# Altium footprint library merci.PcbLib: 23 footprints (part 1 of 2)
Each footprint in its own frame and in the unit in brackets; x right, y up, seen from the top. Pads: shape width x height; smd on the part's side, far side on the other; paste and mask are expansions set on the pad; w line width, h text height; cw(c..) or ccw(c..) is an arc to the next point about the centre after c.
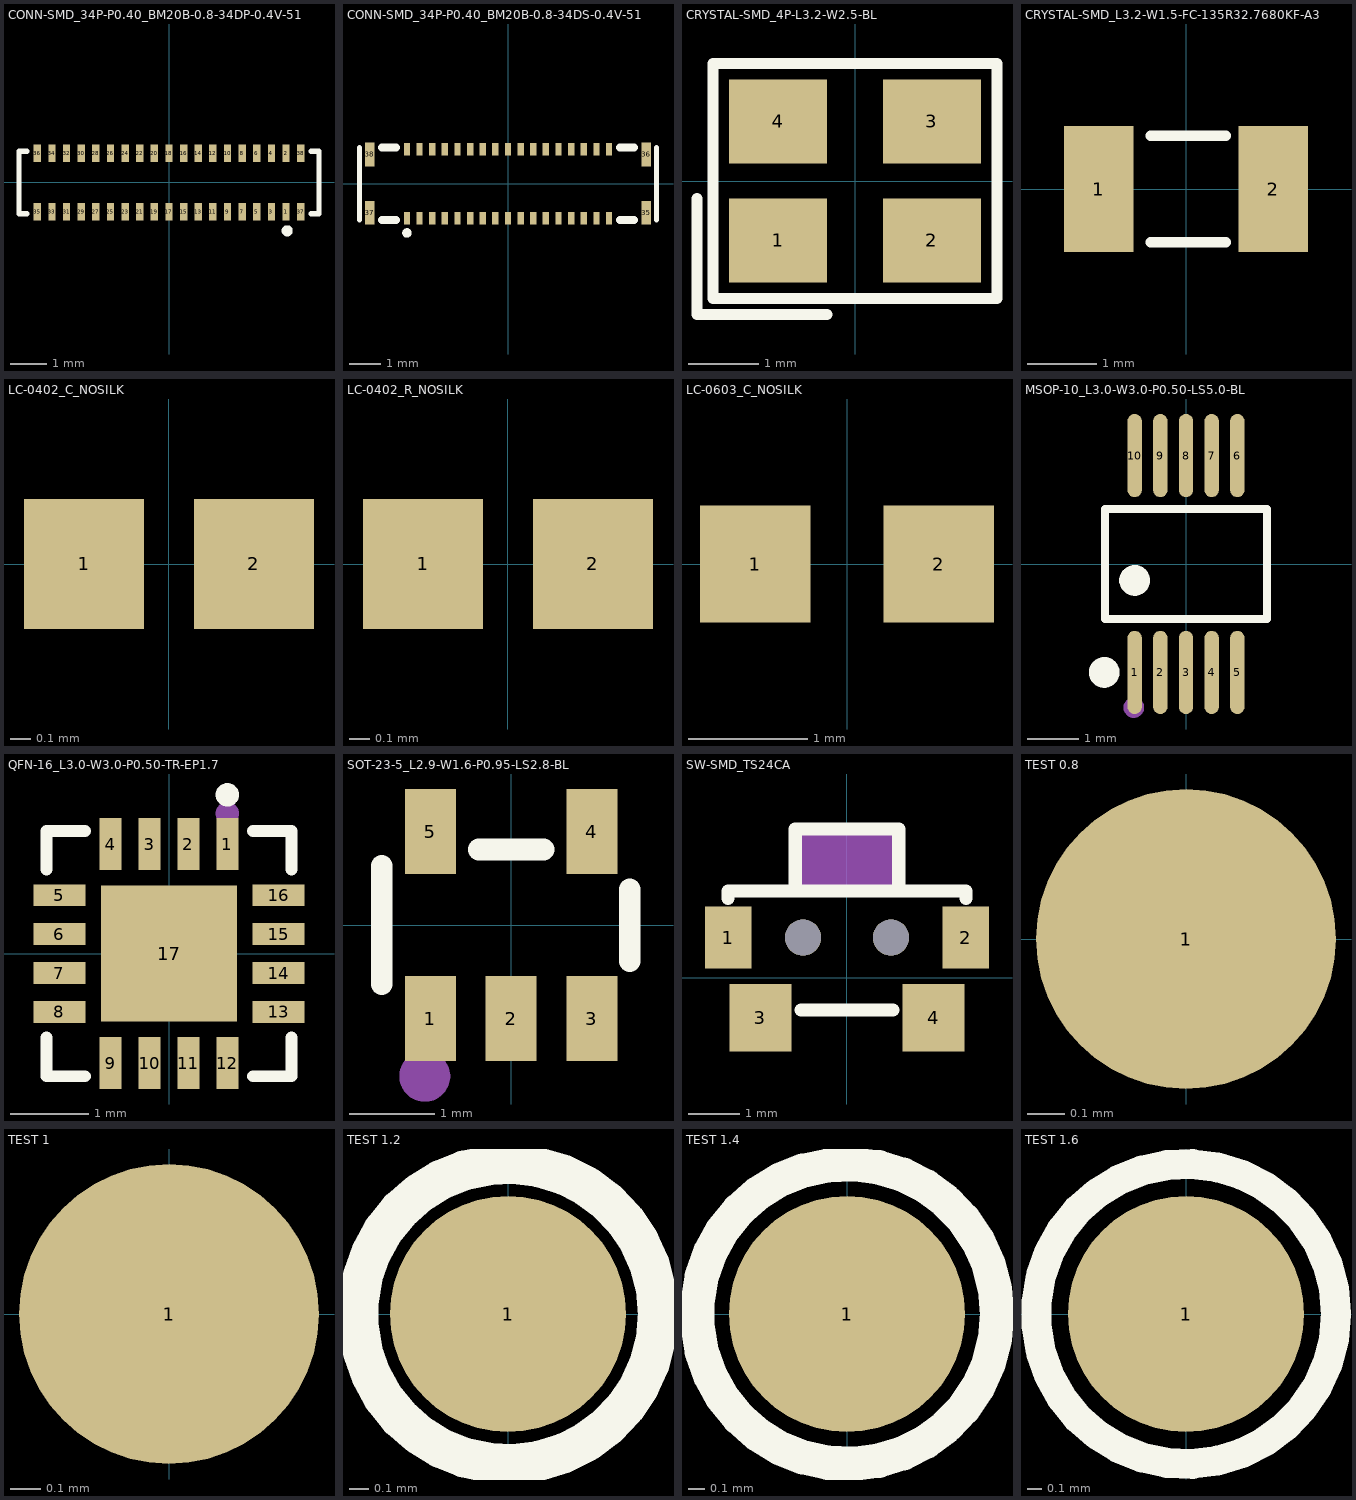
[diagram p0: the footprints below, top view; thin cyan lines are the x and y axes]

## CONN-SMD_34P-P0.40_BM20B-0.8-34DP-0.4V-51 [mm]
pads (38):
  rect 0.2x0.48 smd: 1(3.2,-0.8) 2(3.2,0.8) 3(2.8,-0.8) 4(2.8,0.8) 5(2.4,-0.8) 6(2.4,0.8) 7(2,-0.8) 8(2,0.8) 9(1.6,-0.8) 10(1.6,0.8) 11(1.2,-0.8) 12(1.2,0.8) 13(0.8,-0.8) 14(0.8,0.8) 15(0.4,-0.8) 16(0.4,0.8) 17(0,-0.8) 18(0,0.8) 19(-0.4,-0.8) 20(-0.4,0.8) 21(-0.8,-0.8) 22(-0.8,0.8) 23(-1.2,-0.8) 24(-1.2,0.8) 25(-1.6,-0.8) 26(-1.6,0.8) 27(-2,-0.8) 28(-2,0.8) 29(-2.4,-0.8) 30(-2.4,0.8) 31(-2.8,-0.8) 32(-2.8,0.8) 33(-3.2,-0.8) 34(-3.2,0.8) 35(-3.6,-0.8) 36(-3.6,0.8) 37(3.6,-0.8) 38(3.6,0.8)
Top Overlay:
  circle w0.15: c3.23,-1.32 r0.076
  lines w0.15: -3.894,-0.86 -4.1,-0.86 -4.1,0.86 -3.894,0.86 ; 3.894,-0.86 4.1,-0.86 4.1,0.86 3.894,0.86
3D body "BM20B(0.8)-34DP-0.4V.stp": height 0.63, standoff -0.03, extent -4.075,-0.94 4.125,0.84

## CONN-SMD_34P-P0.40_BM20B-0.8-34DS-0.4V-51 [mm]
pads (38):
  rect 0.2x0.4 smd: 1(-3.2,-1.09) 2(-3.2,1.09) 3(-2.8,-1.09) 4(-2.8,1.09) 5(-2.4,-1.09) 6(-2.4,1.09) 7(-2,-1.09) 8(-2,1.09) 9(-1.6,-1.09) 10(-1.6,1.09) 11(-1.2,-1.09) 12(-1.2,1.09) 13(-0.8,-1.09) 14(-0.8,1.09) 15(-0.4,-1.09) 16(-0.4,1.09) 17(0,-1.09) 18(0,1.09) 19(0.4,-1.09) 20(0.4,1.09) 21(0.8,-1.09) 22(0.8,1.09) 23(1.2,-1.09) 24(1.2,1.09) 25(1.6,-1.09) 26(1.6,1.09) 27(2,-1.09) 28(2,1.09) 29(2.4,-1.09) 30(2.4,1.09) 31(2.8,-1.09) 32(2.8,1.09) 33(3.2,-1.09) 34(3.2,1.09)
  rect 0.3x0.75 smd: 35(4.375,-0.925) 36(4.375,0.925) 37(-4.375,-0.925) 38(-4.375,0.925)
Top Overlay:
  circle w0.15: c-3.2,-1.56 r0.076
  lines w0.15: -4.7,-1.15 -4.7,1.15 ; 4.7,-1.15 4.7,1.15
  lines w0.254: -3.994,-1.15 -3.546,-1.15 ; -3.994,1.15 -3.546,1.15 ; 3.546,-1.15 3.994,-1.15 ; 3.546,1.15 3.994,1.15
3D body "BM20B(0.8)-34DS-0.4V.stp": height 0.77, standoff -0.03, extent -4.64,-1.168 4.64,1.132

## CRYSTAL-SMD_4P-L3.2-W2.5-BL [mm]
pads (4):
  rect 1.4x1.2 smd: 1(-1.1,-0.85) 2(1.1,-0.85) 3(1.1,0.85) 4(-1.1,0.85)
Top Overlay:
  lines w0.152: -2.257,-0.25 -2.257,-1.907 -0.4,-1.907 ; -2.029,-1.678 2.029,-1.678 2.029,1.679 -2.029,1.679 -2.029,-1.678
Mechanical 15:
  circle w0.36: c-1.143,-0.889 r0.18
3D body "tsx-3225.SLDPRT": height 0.6, standoff 0, extent -1.549,-1.25 1.651,1.25

## CRYSTAL-SMD_L3.2-W1.5-FC-135R32.7680KF-A3 [mm]
pads (2):
  rect 1x1.8 smd: 1(-1.25,0) 2(1.25,0)
Top Overlay:
  lines w0.15: -0.508,-0.762 0.571,-0.762 ; -0.508,0.762 0.571,0.762
3D body "crystal_rtf3215.stp": height 0.9, standoff -0.01, extent -1.6,-0.75 1.6,0.75

## LC-0402_C_NOSILK [mm]
pads (2):
  rect 0.6x0.65 smd mask+0.051: 1(-0.425,0) 2(0.425,0)
3D body "0402 SMD Capacitor.step": height 0.2, standoff 0, extent -0.483,-0.3 0.518,0.3

## LC-0402_R_NOSILK [mm]
pads (2):
  rect 0.6x0.65 smd mask+0.051: 1(-0.425,0) 2(0.425,0)
3D body "User Library-RES_1005-0402.STEP": height 0.41, standoff 0, extent -0.575,-0.275 0.575,0.275

## LC-0603_C_NOSILK [mm]
pads (2):
  rect 0.93x0.98 smd: 1(-0.77,0) 2(0.77,0)
3D body "User Library-0603 SMD Capacitor.STEP": height 0.3, standoff 0, extent -0.8,-0.4 0.8,0.4

## MSOP-10_L3.0-W3.0-P0.50-LS5.0-BL [mm]
pads (10):
  oval 0.28x1.62 smd: 1(-1,-2.11) 2(-0.5,-2.11) 3(0,-2.11) 4(0.5,-2.11) 5(1,-2.11) 6(1,2.11) 7(0.5,2.11) 8(0,2.11) 9(-0.5,2.11) 10(-1,2.11)
Top Overlay:
  circle w0.3: c-1.592,-2.11 r0.15
  circle w0.3: c-1,-0.319 r0.15
  lines w0.152: -1.576,-1.071 1.576,-1.071 1.576,1.071 -1.576,1.071 -1.576,-1.071
Mechanical 15:
  circle w0.2: c-1.016,-2.794 r0.1
3D body "MSOP-10.SLDPRT": height 1.05, standoff 0, extent -1.5,-2.437 1.5,2.59

## QFN-16_L3.0-W3.0-P0.50-TR-EP1.7 [mm]
pads (17):
  rect 0.28x0.665 smd: 1(0.75,1.407) 2(0.25,1.407) 3(-0.25,1.407) 4(-0.75,1.407) 9(-0.75,-1.407) 10(-0.25,-1.407) 11(0.25,-1.407) 12(0.75,-1.407)
  rect 0.665x0.28 smd: 5(-1.407,0.75) 6(-1.407,0.25) 7(-1.407,-0.25) 8(-1.407,-0.75) 13(1.407,-0.75) 14(1.407,-0.25) 15(1.407,0.25) 16(1.407,0.75)
  rect 1.75x1.75 smd: 17(0,0)
Top Overlay:
  circle w0.15: c0.75,2.04 r0.075
  lines w0.152: -1.576,-1.08 -1.576,-1.576 -1.08,-1.576 ; -1.576,1.08 -1.576,1.576 -1.08,1.576 ; 1.08,-1.576 1.576,-1.576 1.576,-1.08 ; 1.08,1.576 1.576,1.576 1.576,1.08
Mechanical 15:
  circle w0.15: c0.75,1.8 r0.075
3D body "User Library-QFN-16.SLDPRT": height -0.36, standoff -1.26, extent -1.501,-1.501 1.501,1.501

## SOT-23-5_L2.9-W1.6-P0.95-LS2.8-BL [mm]
pads (5):
  rect 0.6x1 smd: 1(-0.95,-1.1) 2(0,-1.1) 3(0.95,-1.1) 4(0.95,1.1) 5(-0.95,1.1)
Top Overlay:
  lines w0.254: -1.524,-0.699 -1.524,0.699 ; -0.381,0.889 0.381,0.889 ; 1.397,-0.422 1.397,0.422
Mechanical 15:
  circle w0.3: c-1.016,-1.778 r0.15
3D body "CircuitWorks-SOT-23-5.SLDPRT": height 1.01, standoff -0.09, extent -1.475,-1.25 1.525,1.25

## SW-SMD_TS24CA [mm]
pads (6):
  rect 0.9x1.2 smd: 1(-2.3,0.775) 2(2.3,0.775)
  rect 1.2x1.3 smd: 3(-1.675,-0.775) 4(1.675,-0.775)
  round 0.7 hole 0.7 unplated: ""(-0.85,0.775) ""(0.85,0.775)
Top Overlay:
  lines w0.254: -2.3,1.537 -2.3,1.675 2.3,1.675 2.3,1.537 ; -1,1.675 -1,2.875 1,2.875 1,1.675 ; -0.889,-0.625 0.889,-0.625
Mechanical 15:
  circle w0.25: c-0.85,0.775 r0.125
  circle w0.25: c0.85,0.775 r0.125
  region: -1.016,1.778 -1.016,2.921 1.016,2.921 1.016,1.778
3D body "TL3330AF260QG--3DModel-STEP-613395.STEP": height 3.5, standoff 0, extent -3.951,-1.401 3.849,2.108

## TEST 0.8 [mm] "测试点0.8mm"
pads (1):
  round 0.8 smd: 1(0,0)

## TEST 1 [mm] "测试点1mm"
pads (1):
  round 1 smd paste-1: 1(0,0)

## TEST 1.2 [mm] "测试点1.2mm"
pads (1):
  round 1.2 smd paste-1.2: 1(0,0)
Top Overlay:
  circle w0.203: c0,0 r0.762

## TEST 1.4 [mm] "测试点1.4mm"
pads (1):
  round 1.4 smd paste-1.4: 1(0,0)
Top Overlay:
  circle w0.203: c0,0 r0.889

## TEST 1.6 [mm] "测试点1.6mm"
pads (1):
  round 1.6 smd paste-1.6: 1(0,0)
Top Overlay:
  circle w0.203: c0,0 r1.016